# Altium footprint library MLACHT_Z.PCBLIB: 150 footprints (part 2 of 10)
Each footprint in its own frame and in the unit in brackets; x right, y up, seen from the top. Pads: shape width x height; smd on the part's side, far side on the other; paste and mask are expansions set on the pad; w line width, h text height; cw(c..) or ccw(c..) is an arc to the next point about the centre after c.
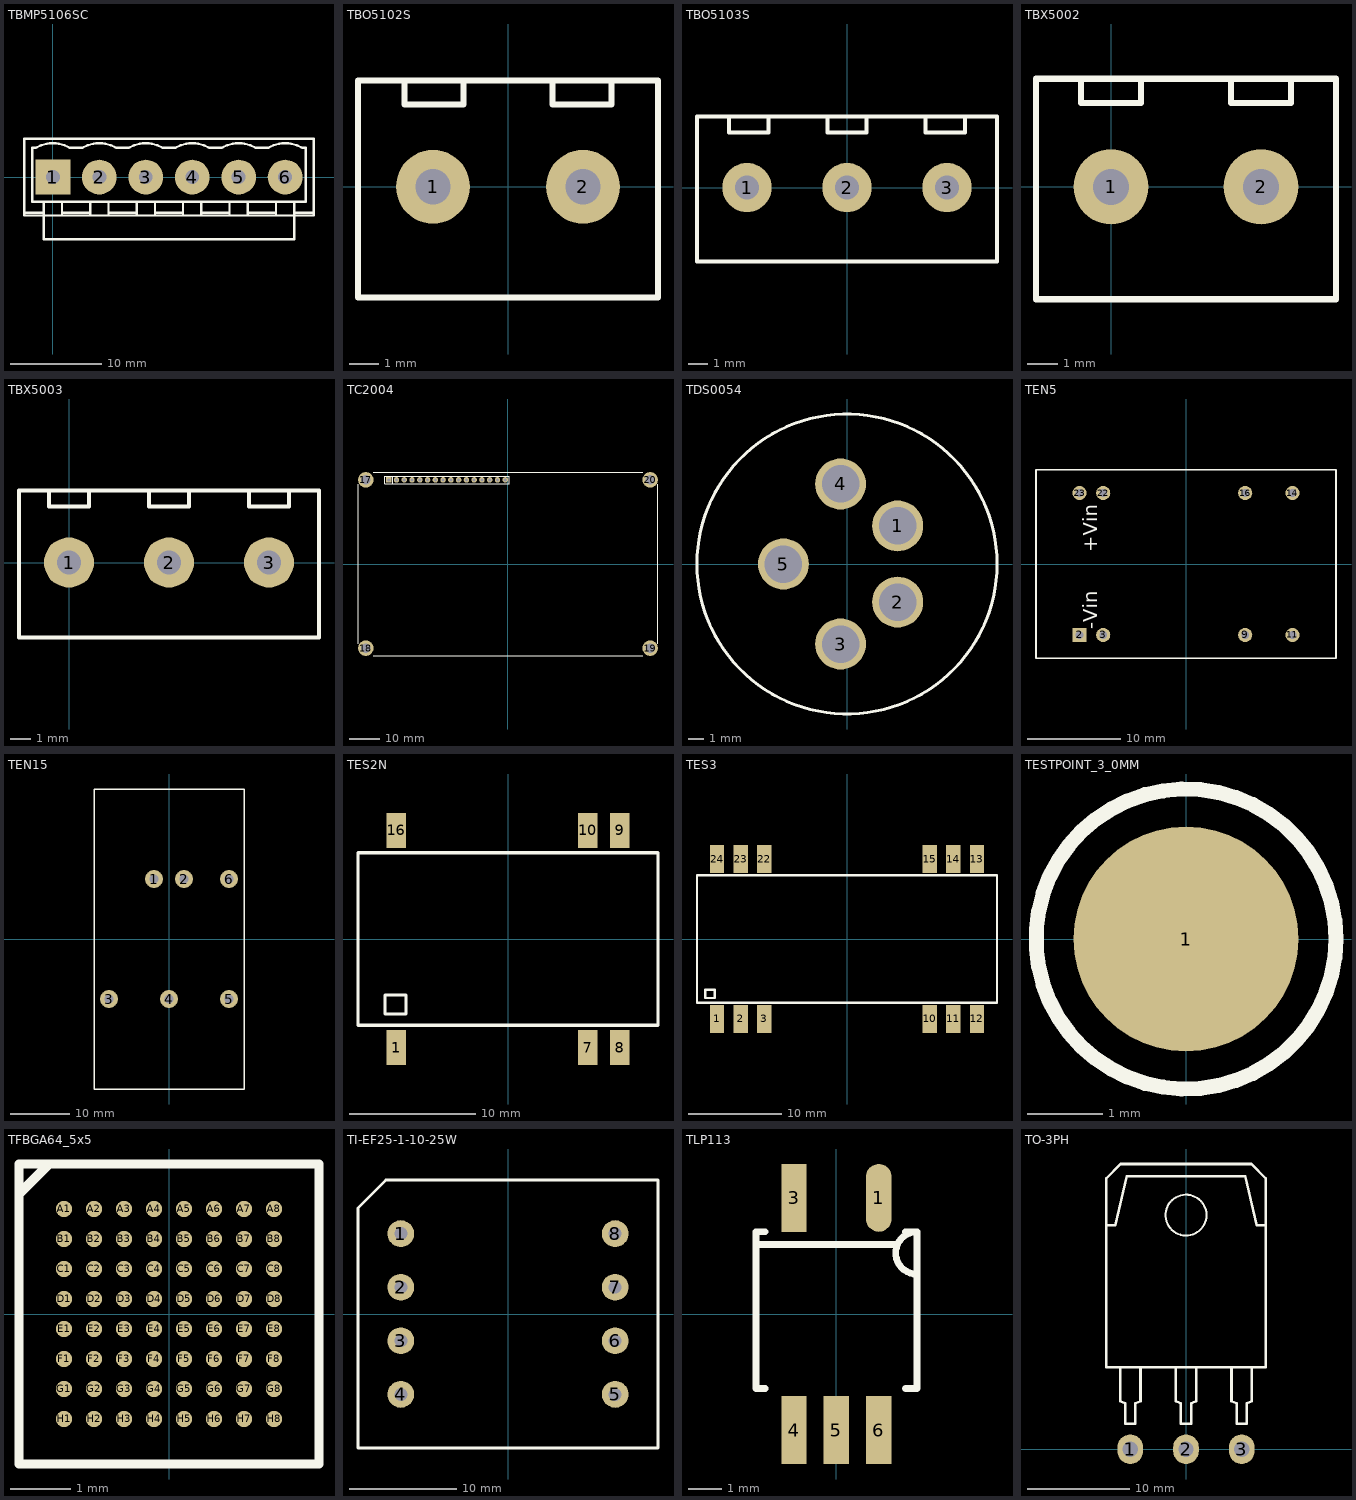
[diagram p1: the footprints below, top view; thin cyan lines are the x and y axes]

## TBMP5106SC [mil]
pads (6):
  rect 150x150 hole 60: 1(0,0)
  round 150 hole 60: 2(200,0) 3(400,0) 4(600,0) 5(800,0) 6(1000,0)
TopOverlay:
  lines w10: -123.62,-153.54 -39.37,-153.54 ; -123.62,165.35 -123.62,-165.35 1123.62,-165.35 1123.62,165.35 -122.83,165.35 ; -39.37,-165.98 -39.37,-267.72 1039.37,-267.72 1039.37,-165.98 ; -39.37,-165.35 -39.37,-106.3 ; 39.37,-165.35 39.37,-106.3 ; 39.37,-153.54 160.63,-153.54 ; 160.63,-165.35 160.63,-106.3 ; 239.37,-165.35 239.37,-106.3 ; 239.37,-153.54 360.63,-153.54 ; 360.63,-165.35 360.63,-106.3 ; 439.37,-165.35 439.37,-106.3 ; 439.37,-153.54 560.63,-153.54 ; 560.63,-165.35 560.63,-106.3 ; 639.37,-165.35 639.37,-106.3 ; 639.37,-153.54 760.63,-153.54 ; 760.63,-165.35 760.63,-106.3 ; 839.37,-165.35 839.37,-106.3 ; 839.37,-153.54 960.63,-153.54 ; 960.63,-165.35 960.63,-106.3 ; 1039.37,-165.35 1039.37,-106.3 ; 1039.37,-153.54 1123.62,-153.54 ; -88.19,-106.3 -88.19,126.15 -72.83,126.15 cw(c0,0) 72.83,126.15 127.17,126.15 cw(c200,0) 272.83,126.15 327.17,126.15 cw(c400,0) 472.83,126.15 527.17,126.15 cw(c600,0) 672.83,126.15 727.17,126.15 cw(c800,0) 872.83,126.15 927.17,126.15 cw(c1000,0) 1072.83,126.15 1088.19,126.15 1088.19,-106.3 -88.19,-106.3
3D body: height 409.45, standoff -153.54, extent 980.32,-19.68 1019.68,19.68
3D body: height 409.45, standoff -153.54, extent 780.32,-19.68 819.68,19.68
3D body: height 409.45, standoff -153.54, extent 580.32,-19.68 619.68,19.68
3D body: height 409.45, standoff -153.54, extent 380.31,-19.68 419.69,19.68
3D body: height 409.45, standoff -153.54, extent 180.31,-19.68 219.69,19.68
3D body: height 409.45, standoff -153.54, extent -19.68,-19.68 19.68,19.68
3D body: height 472.44, standoff 118.11, extent 1088.19,-106.3 1123.62,126.15
3D body: height 472.44, standoff 118.11, extent -123.62,-106.3 -88.19,126.15
3D body: height 472.44, standoff 118.11, extent -123.62,-153.54 1123.62,-106.3
3D body: height 472.44, standoff 118.11, extent -122.83,125.98 1123.62,165.35
3D body: height 137.8, standoff 0, extent -123.62,-153.54 1123.62,165.35

## TBO5102S [mm]
pads (2):
  round 2.5 hole 1.2: 1(-2.54,0) 2(2.54,0)
TopOverlay:
  lines w0.203: -3.5,3.6 -3.5,2.794 -1.5,2.794 -1.5,3.6 ; 1.5,3.6 1.5,2.794 3.5,2.794 3.5,3.6 ; -5.08,-3.75 5.08,-3.75 5.08,3.6 -5.08,3.6 -5.08,-3.75
3D body: height 17.5, standoff 14.5, extent 1.008,-1.5 3.992,1.487
3D body: height 17.5, standoff 14.5, extent -3.992,-1.5 -1.008,1.487
3D body: height 16, standoff 0, extent -5,-3.75 5,3.6

## TBO5103S [mm]
pads (3):
  round 2.5 hole 1.2: 1(-5.08,0) 2(0,0) 3(5.08,0)
TopOverlay:
  lines w0.203: -6,3.6 -6,2.794 -4,2.794 -4,3.6 ; -1,3.6 -1,2.794 1,2.794 1,3.6 ; 4,3.6 4,2.794 6,2.794 6,3.6 ; -7.62,-3.75 7.62,-3.75 7.62,3.6 -7.62,3.6 -7.62,-3.75
3D body: height 16, standoff 0, extent -7.5,-3.75 7.5,3.6
3D body: height 17.5, standoff 14.5, extent 3.508,-1.5 6.492,1.487
3D body: height 17.5, standoff 14.5, extent -1.492,-1.5 1.492,1.487
3D body: height 17.5, standoff 14.5, extent -6.492,-1.5 -3.508,1.487

## TBX5002 [mm]
pads (2):
  round 2.5 hole 1.2: 1(0,0) 2(5,0)
TopOverlay:
  lines w0.203: -1,3.6 -1,2.794 1,2.794 1,3.6 ; 4,3.6 4,2.794 6,2.794 6,3.6 ; -2.5,-3.75 -2.5,3.6 7.5,3.6 7.5,-3.75 -2.5,-3.75
3D body: height 16, standoff 0, extent -2.5,-3.75 7.5,3.6
3D body: height 17.5, standoff 14.5, extent -1.492,-1.5 1.492,1.487
3D body: height 17.5, standoff 14.5, extent 3.508,-1.5 6.492,1.487

## TBX5003 [mm]
pads (3):
  round 2.5 hole 1.2: 1(0,0) 2(5,0) 3(10,0)
TopOverlay:
  lines w0.203: -1,3.6 -1,2.794 1,2.794 1,3.6 ; 4,3.6 4,2.794 6,2.794 6,3.6 ; 9,3.6 9,2.794 11,2.794 11,3.6 ; -2.5,-3.75 12.5,-3.75 12.5,3.6 -2.5,3.6 -2.5,-3.75
3D body: height 16, standoff 0, extent -2.5,-3.75 12.5,3.6
3D body: height 17.5, standoff 14.5, extent 8.508,-1.5 11.492,1.487
3D body: height 17.5, standoff 14.5, extent 3.508,-1.5 6.492,1.487
3D body: height 17.5, standoff 14.5, extent -1.492,-1.5 1.492,1.487

## TC2004 [mil]
pads (20):
  rect 70x70 hole 40: 1(-1535.43,1082.68)
  round 70 hole 40: 2(-1435.43,1082.68) 3(-1335.43,1082.68) 4(-1235.43,1082.68) 5(-1135.43,1082.68) 6(-1035.43,1082.68) 7(-935.43,1082.68) 8(-835.43,1082.68) 9(-735.43,1082.68) 10(-635.43,1082.68) 11(-535.43,1082.68) 12(-435.43,1082.68) 13(-335.43,1082.68) 14(-235.43,1082.68) 15(-135.43,1082.68) 16(-35.43,1082.68)
  round 200 hole 120: 17(-1830.71,1082.68) 18(-1830.71,-1082.68) 19(1830.71,-1082.68) 20(1830.71,1082.68)
TopOverlay:
  lines w10: -1929.13,-1023.62 -1929.13,1023.62 ; -1732.28,-1181.1 1732.28,-1181.1 ; -1732.28,1181.1 1732.28,1181.1 ; -1485.43,1032.68 -1485.43,1132.68 ; 1929.13,-1023.62 1929.13,1023.62 ; -1585.43,1032.68 14.57,1032.68 14.57,1132.68 -1585.43,1132.68 -1585.43,1032.68

## TDS0054 [mm]
pads (5):
  round 3.4 hole 2.5 mask+0.3: 1(3.38,2.54) 2(3.38,-2.54) 3(-0.43,-5.335) 4(-0.43,5.335) 5(-4.24,0)
TopOverlay:
  circle w0.2: c0,0 r10
3D body: height 16.6, standoff 0, extent -10.079,-9.961 9.842,10

## TEN5 [mil]
height 393.7
pads (8):
  rect 60x60 hole 32: 2(-450,-300)
  round 60 hole 32: 3(-350,-300) 9(250,-300) 11(450,-300) 14(450,300) 16(250,300) 22(-350,300) 23(-450,300)
TopOverlay:
  lines w8: -633.86,-398.43 633.86,-398.43 633.86,398.43 -633.86,398.43 -633.86,-398.43
  text "+Vin" at -375,50 h60
  text "-Vin" at -375,-275 h60
3D body: height 397.64, standoff 389.76, extent 28.35,-97.24 199.61,138.98
3D body: height 397.64, standoff 389.76, extent -168.5,-97.24 2.76,139.73
3D body: height 397.64, standoff 389.76, extent -365.35,-97.24 -194.09,139.74
3D body: height 397.64, standoff 389.76, extent 217.32,-97.24 396.46,138.98
3D body: height 393.7, standoff 0, extent -628.74,-398.43 628.74,398.43

## TEN15 [mil]
pads (6):
  round 120 hole 60: 1(-100,400) 2(100,400) 3(-400,-400) 4(0,-400) 5(400,-400) 6(400,400)
TopOverlay:
  lines w10: -500,-1000 500,-1000 500,1000 -500,1000 -500,-1000

## TES2N [mil]
pads (6):
  rect 60x110 smd: 1(-350,-340) 7(250,-340) 8(350,-340) 9(350,340) 10(250,340) 16(-350,340)
TopOverlay:
  lines w10: -470,-270 470,-270 470,270 -470,270 -470,-270 ; -385,-235 -320,-235 -320,-175 -385,-175 -385,-235

## TES3 [mil]
pads (12):
  rect 60x120 smd: 1(-550,-338.58) 2(-450,-338.58) 3(-350,-338.58) 10(350,-338.58) 11(450,-338.58) 12(550,-338.58) 13(550,338.58) 14(450,338.58) 15(350,338.58) 22(-350,338.58) 23(-450,338.58) 24(-550,338.58)
TopOverlay:
  lines w10: -635,-270 635,-270 635,270 -635,270 -635,-270 ; -600,-250 -600,-215 -560,-215 -560,-250 -600,-250

## TESTPOINT_3_0MM [mm]
pads (1):
  round 3 smd: 1(0,0)
TopOverlay:
  circle w0.2: c0,0 r2

## TFBGA64_5x5 [mm]
pads (64):
  round 0.27 smd paste+0 mask+0.04: A1(-1.75,1.75) A2(-1.25,1.75) A3(-0.75,1.75) A4(-0.25,1.75) A5(0.25,1.75) A6(0.75,1.75) A7(1.25,1.75) A8(1.75,1.75) B1(-1.75,1.25) B2(-1.25,1.25) B3(-0.75,1.25) B4(-0.25,1.25) B5(0.25,1.25) B6(0.75,1.25) B7(1.25,1.25) B8(1.75,1.25) C1(-1.75,0.75) C2(-1.25,0.75) C3(-0.75,0.75) C4(-0.25,0.75) C5(0.25,0.75) C6(0.75,0.75) C7(1.25,0.75) C8(1.75,0.75) D1(-1.75,0.25) D2(-1.25,0.25) D3(-0.75,0.25) D4(-0.25,0.25) D5(0.25,0.25) D6(0.75,0.25) D7(1.25,0.25) D8(1.75,0.25) E1(-1.75,-0.25) E2(-1.25,-0.25) E3(-0.75,-0.25) E4(-0.25,-0.25) E5(0.25,-0.25) E6(0.75,-0.25) E7(1.25,-0.25) E8(1.75,-0.25) F1(-1.75,-0.75) F2(-1.25,-0.75) F3(-0.75,-0.75) F4(-0.25,-0.75) F5(0.25,-0.75) F6(0.75,-0.75) F7(1.25,-0.75) F8(1.75,-0.75) G1(-1.75,-1.25) G2(-1.25,-1.25) G3(-0.75,-1.25) G4(-0.25,-1.25) G5(0.25,-1.25) G6(0.75,-1.25) G7(1.25,-1.25) G8(1.75,-1.25) H1(-1.75,-1.75) H2(-1.25,-1.75) H3(-0.75,-1.75) H4(-0.25,-1.75) H5(0.25,-1.75) H6(0.75,-1.75) H7(1.25,-1.75) H8(1.75,-1.75)
TopOverlay:
  lines w0.15: -2.5,2 -2,2.5 ; -2.5,-2.5 2.5,-2.5 2.5,2.5 -2.5,2.5 -2.5,-2.5
3D body: height 0.3, standoff 0, extent -1.9,-1.9 -1.602,-1.601
3D body: height 0.3, standoff 0, extent -1.4,-1.9 -1.102,-1.601
3D body: height 0.3, standoff 0, extent -0.9,-1.9 -0.602,-1.601
3D body: height 0.3, standoff 0, extent -0.4,-1.9 -0.102,-1.601
3D body: height 0.3, standoff 0, extent 0.1,-1.9 0.398,-1.601
3D body: height 0.3, standoff 0, extent 0.6,-1.9 0.898,-1.601
3D body: height 0.3, standoff 0, extent 1.1,-1.9 1.398,-1.601
3D body: height 0.3, standoff 0, extent 1.6,-1.9 1.898,-1.601
3D body: height 0.3, standoff 0, extent -1.9,-1.4 -1.602,-1.101
3D body: height 0.3, standoff 0, extent -1.4,-1.4 -1.102,-1.101
3D body: height 0.3, standoff 0, extent -0.9,-1.4 -0.602,-1.101
3D body: height 0.3, standoff 0, extent -0.4,-1.4 -0.102,-1.101
3D body: height 0.3, standoff 0, extent 0.1,-1.4 0.398,-1.101
3D body: height 0.3, standoff 0, extent 0.6,-1.4 0.898,-1.101
3D body: height 0.3, standoff 0, extent 1.1,-1.4 1.398,-1.101
3D body: height 0.3, standoff 0, extent 1.6,-1.4 1.898,-1.101
3D body: height 0.3, standoff 0, extent -1.9,-0.9 -1.602,-0.601
3D body: height 0.3, standoff 0, extent -1.4,-0.9 -1.102,-0.601
3D body: height 0.3, standoff 0, extent -0.9,-0.9 -0.602,-0.601
3D body: height 0.3, standoff 0, extent -0.4,-0.9 -0.102,-0.601
3D body: height 0.3, standoff 0, extent 0.1,-0.9 0.398,-0.601
3D body: height 0.3, standoff 0, extent 0.6,-0.9 0.898,-0.601
3D body: height 0.3, standoff 0, extent 1.1,-0.9 1.398,-0.601
3D body: height 0.3, standoff 0, extent 1.6,-0.9 1.898,-0.601
3D body: height 0.3, standoff 0, extent -1.9,-0.4 -1.602,-0.101
3D body: height 0.3, standoff 0, extent -1.4,-0.4 -1.102,-0.101
3D body: height 0.3, standoff 0, extent -0.9,-0.4 -0.602,-0.101
3D body: height 0.3, standoff 0, extent -0.4,-0.4 -0.102,-0.101
3D body: height 0.3, standoff 0, extent 0.1,-0.4 0.398,-0.101
3D body: height 0.3, standoff 0, extent 0.6,-0.4 0.898,-0.101
3D body: height 0.3, standoff 0, extent 1.1,-0.4 1.398,-0.101
3D body: height 0.3, standoff 0, extent 1.6,-0.4 1.898,-0.101
3D body: height 0.3, standoff 0, extent -1.9,0.1 -1.602,0.399
3D body: height 0.3, standoff 0, extent -1.4,0.1 -1.102,0.399
3D body: height 0.3, standoff 0, extent -0.9,0.1 -0.602,0.399
3D body: height 0.3, standoff 0, extent -0.4,0.1 -0.102,0.399
3D body: height 0.3, standoff 0, extent 0.1,0.1 0.398,0.399
3D body: height 0.3, standoff 0, extent 0.6,0.1 0.898,0.399
3D body: height 0.3, standoff 0, extent 1.1,0.1 1.398,0.399
3D body: height 0.3, standoff 0, extent 1.6,0.1 1.898,0.399
3D body: height 0.3, standoff 0, extent -1.9,0.6 -1.602,0.899
3D body: height 0.3, standoff 0, extent -1.4,0.6 -1.102,0.899
3D body: height 0.3, standoff 0, extent -0.9,0.6 -0.602,0.899
3D body: height 0.3, standoff 0, extent -0.4,0.6 -0.102,0.899
3D body: height 0.3, standoff 0, extent 0.1,0.6 0.398,0.899
3D body: height 0.3, standoff 0, extent 0.6,0.6 0.898,0.899
3D body: height 0.3, standoff 0, extent 1.1,0.6 1.398,0.899
3D body: height 0.3, standoff 0, extent 1.6,0.6 1.898,0.899
3D body: height 0.3, standoff 0, extent 1.6,1.1 1.898,1.399
3D body: height 0.3, standoff 0, extent 1.1,1.1 1.398,1.399
3D body: height 0.3, standoff 0, extent 0.6,1.1 0.898,1.399
3D body: height 0.3, standoff 0, extent 0.1,1.1 0.398,1.399
3D body: height 0.3, standoff 0, extent -0.4,1.1 -0.102,1.399
3D body: height 0.3, standoff 0, extent -0.9,1.1 -0.602,1.399
3D body: height 0.3, standoff 0, extent -1.4,1.1 -1.102,1.399
3D body: height 0.3, standoff 0, extent -1.9,1.1 -1.602,1.399
3D body: height 0.3, standoff 0, extent 1.6,1.6 1.898,1.899
3D body: height 0.3, standoff 0, extent 1.1,1.6 1.398,1.899
3D body: height 0.3, standoff 0, extent 0.6,1.6 0.898,1.899
3D body: height 0.3, standoff 0, extent 0.1,1.6 0.398,1.899
3D body: height 0.3, standoff 0, extent -0.4,1.6 -0.102,1.899
3D body: height 0.3, standoff 0, extent -0.9,1.6 -0.602,1.899
3D body: height 0.3, standoff 0, extent -1.4,1.6 -1.102,1.899
3D body: height 0.3, standoff 0, extent -1.9,1.6 -1.602,1.899
3D body: height 1.2, standoff 0.15, extent -2.5,-2.5 2.5,2.5

## TI-EF25-1-10-25W [mm]
pads (8):
  round 2.5 hole 1.2: 1(-10,7.5) 2(-10,2.5) 3(-10,-2.5) 4(-10,-7.5) 5(10,-7.5) 6(10,-2.5) 7(10,2.5) 8(10,7.5)
TopOverlay:
  lines w0.25: -14,-12.5 -14,9.9 -11.4,12.5 14,12.5 14,-12.5 -14,-12.5
3D body: height 4.5, standoff 3, extent -14,6.8 -13,8.2
3D body: height 4.5, standoff 3, extent -14,1.8 -13,3.2
3D body: height 4.5, standoff 3, extent -14,-3.2 -13,-1.8
3D body: height 4.5, standoff 3, extent -14,-8.2 -13,-6.8
3D body: height 4.5, standoff 3, extent 13,-8.2 14,-6.8
3D body: height 4.5, standoff 3, extent 13,-3.2 14,-1.8
3D body: height 4.5, standoff 3, extent 13,1.8 14,3.2
3D body: height 5, standoff -2.5, extent -10.5,7 -9.504,7.998
3D body: height 5, standoff -2.5, extent -10.5,2 -9.504,2.998
3D body: height 5, standoff -2.5, extent -10.5,-3 -9.504,-2.002
3D body: height 5, standoff -2.5, extent -10.5,-8 -9.504,-7.002
3D body: height 5, standoff -2.5, extent 9.5,-8 10.496,-7.002
3D body: height 5, standoff -2.5, extent 9.5,-3 10.496,-2.002
3D body: height 5, standoff -2.5, extent 9.5,2 10.496,2.998
3D body: height 5, standoff -2.5, extent 9.5,7 10.496,7.998
3D body: height 14.5, standoff 7.5, extent -12.5,-12.5 12.5,12.5
3D body: height 7.5, standoff 2.5, extent 8,-12.5 13,12.5
3D body: height 7.5, standoff 0, extent 8,10 13,12.5
3D body: height 7.5, standoff 0, extent 8,-12.5 13,-10
3D body: height 7.5, standoff 0, extent -13,-12.5 -8,-10
3D body: height 7.5, standoff 0, extent -13,10 -8,12.5
3D body: height 7.5, standoff 2.5, extent -13,-12.5 -8,12.5
3D body: height 20, standoff 2.5, extent -7.5,-8 7.5,8
3D body: height 4.5, standoff 3, extent 13,6.8 14,8.2

## TLP113 [mil]
pads (5):
  oval 30x80 smd: 1(50,137)
  rect 30x80 smd: 3(-50,137) 4(-50,-137) 5(0,-137) 6(50,-137)
TopOverlay:
  lines w8: -95,82 70,82 ; -83.86,-88 -95,-88 -95,97 -83.86,97 ; 81.5,-88 95,-88 95,97 ; 81.5,97 95,97 ; 95,47 cw(c95,72) 95,97
3D body: height 47.24, standoff 0, extent -59.06,-137.8 -39.37,-86.61
3D body: height 47.24, standoff 0, extent 39.37,-137.8 59.06,-86.61
3D body: height 47.24, standoff 0, extent 39.37,86.61 59.06,137.8
3D body: height 47.24, standoff 0, extent -59.06,86.61 -39.37,137.8
3D body: height 98.43, standoff 0, extent -70.87,-86.61 70.87,86.61
3D body: height 47.24, standoff 0, extent -10.63,-137.8 9.06,-86.61

## TO-3PH [mm]
pads (3):
  oval 2.5x2.9 hole 1.5: 1(-5.45,0) 2(0,0) 3(5.45,0)
TopOverlay:
  circle w0.2: c0,22.9 r2
  lines w0.25: -7.8,21.9 -6.9,21.9 -5.8,26.7 5.8,26.7 6.9,21.9 7.8,21.9 ; -6.45,8 -6.45,4.7 -5.95,4.5 -5.95,2.5 -4.95,2.5 -4.95,4.5 -4.45,4.7 -4.45,8 ; -1,8 -1,4.7 -0.5,4.5 -0.5,2.5 0.5,2.5 0.5,4.5 1,4.7 1,8 ; 4.45,8 4.45,4.7 4.95,4.5 4.95,2.5 5.95,2.5 5.95,4.5 6.45,4.7 6.45,8 ; -7.8,8 7.8,8 7.8,26.5 6.4,27.9 -6.4,27.9 -7.8,26.5 -7.8,8
3D body: height 6.1, standoff -2, extent 4.95,-0.3 5.95,0.3
3D body: height 6.1, standoff 5.5, extent 4.45,-0.3 6.45,8
3D body: height 6.1, standoff -2, extent -5.95,-0.3 -4.95,0.3
3D body: height 6.1, standoff 5.5, extent -6.45,-0.3 -4.45,8
3D body: height 6.1, standoff 5.5, extent -1,-0.3 1,8
3D body: height 6.1, standoff -2, extent -0.5,-0.3 0.5,0.3
3D body: height 9, standoff 4.1, extent -7.8,7.9 7.8,26.7
3D body: height 5.5, standoff 4, extent -7.8,8 7.85,27.9